# EAGLE library part SX1281IMLTRT (library SX1281IMLTRT)
RF Transceiver PreProduction Sample Wireless Transceiver Source: Datasheet <https://www.arrow.com/en/products/sx1281imltrt/semtech>
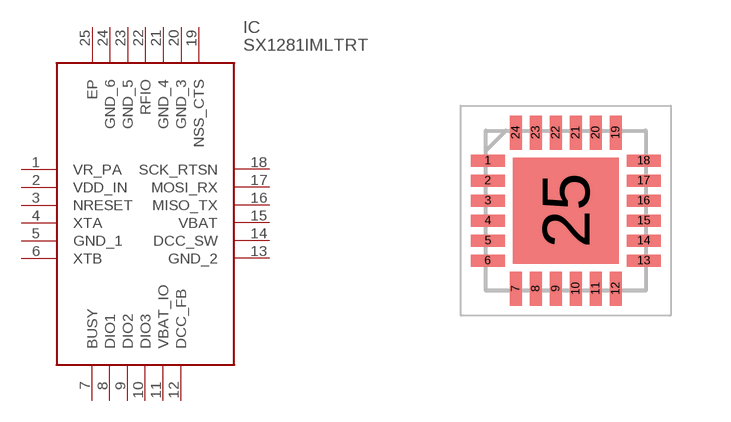
[diagram p0: symbol with the pads of QFN50P400X400X100-25N; footprint QFN50P400X400X100-25N]

Designator prefix IC

## SX1281IMLTRT (Description: RF Transceiver PreProduction Sample Wireless Transceiver; Height: 1mm; Manufacturer_Name: SEMTECH; Manufacturer_Part_Number: SX1281IMLTRT; Mouser_Part_Number: 947-SX1281IMLTRT; Mouser_Price-Stock: https://www.mouser.co.uk/ProductDetail/Semtech/SX1281IMLTRT?qs=5aG0NVq1C4xR1aFoShVcjg%3D%3D)  [QFN50P400X400X100-25N]
1  VR_PA
2  VDD_IN
3  NRESET
4  XTA
5  GND_1
6  XTB
7  BUSY
8  DIO1
9  DIO2
10  DIO3
11  VBAT_IO
12  DCC_FB
13  GND_2
14  DCC_SW
15  VBAT
16  MISO_TX
17  MOSI_RX
18  SCK_RTSN
19  NSS_CTS
20  GND_3
21  GND_4
22  RFIO
23  GND_5
24  GND_6
25  EP

## Footprint QFN50P400X400X100-25N (pad centres in mm)
QFN 4x4 Package Outline Drawing
smd 0.85 x 0.3: 1 -1.95,1.25; 2 -1.95,0.75; 3 -1.95,0.25; 4 -1.95,-0.25; 5 -1.95,-0.75; 6 -1.95,-1.25; 13 1.95,-1.25; 14 1.95,-0.75; 15 1.95,-0.25; 16 1.95,0.25; 17 1.95,0.75; 18 1.95,1.25
smd 0.3 x 0.85: 7 -1.25,-1.95; 8 -0.75,-1.95; 9 -0.25,-1.95; 10 0.25,-1.95; 11 0.75,-1.95; 12 1.25,-1.95; 19 1.25,1.95; 20 0.75,1.95; 21 0.25,1.95; 22 -0.25,1.95; 23 -0.75,1.95; 24 -1.25,1.95
smd 2.65 x 2.65: 25 0,0